# EAGLE library part CON_MICROSIM_FCI_7111S2015X02LF (library WCSMain)
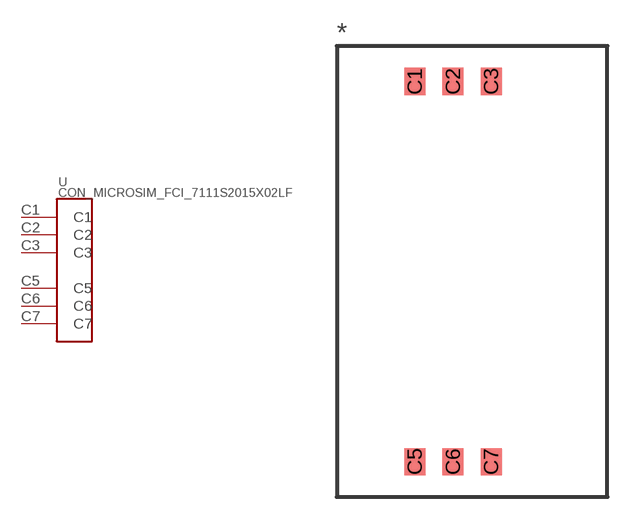
[diagram p26: symbol with the pads of CON_SIM_FCI_7111S2015X02LF; footprint CON_SIM_FCI_7111S2015X02LF]

Designator prefix -

## CON_MICROSIM_FCI_7111S2015X02LF  [CON_SIM_FCI_7111S2015X02LF]
C1  C1  pas
C2  C2  pas
C3  C3  pas
C5  C5  pas
C6  C6  pas
C7  C7  pas

## Footprint CON_SIM_FCI_7111S2015X02LF (pad centres in mm)
smd 1.4 x 1.8: C1 -3.81,12.65; C2 -1.27,12.65; C3 1.27,12.65; C5 -3.81,-12.65; C6 -1.27,-12.65; C7 1.27,-12.65